# Altium footprint library FDBL86563-F085.PcbLib: 1 footprints
Each footprint in its own frame and in the unit in brackets; x right, y up, seen from the top. Pads: shape width x height; smd on the part's side, far side on the other; paste and mask are expansions set on the pad; w line width, h text height; cw(c..) or ccw(c..) is an arc to the next point about the centre after c.
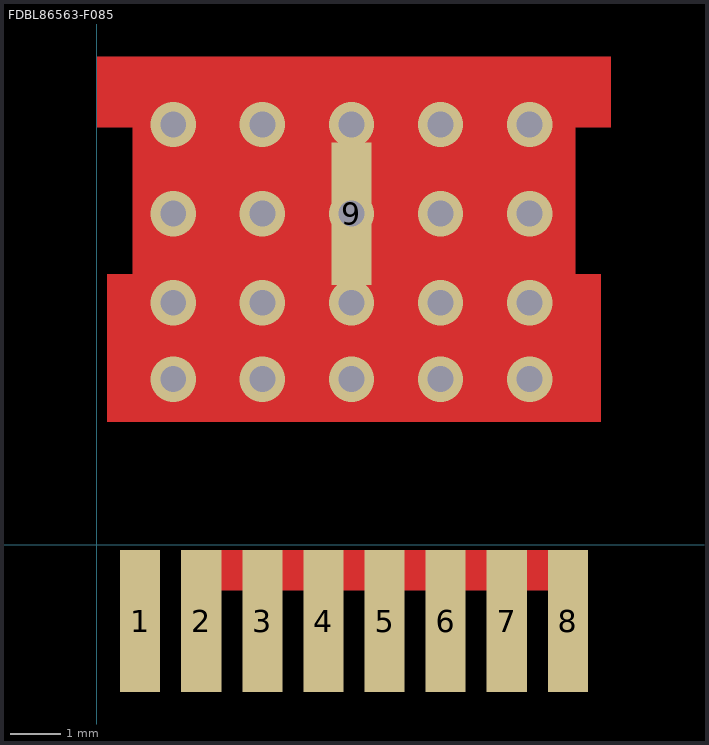
[diagram p0: the footprint, top view; thin cyan lines are the x and y axes]

## FDBL86563-F085 [mm]
pads (9):
  rect 0.787x2.794 smd: 1(0.85,-1.5) 2(2.05,-1.5) 3(3.25,-1.5) 4(4.45,-1.5) 5(5.65,-1.5) 6(6.85,-1.5) 7(8.05,-1.5) 8(9.25,-1.5) 9(5,6.5)
via 8.5,6.5 diameter 0.889 hole 0.508
via 1.5,6.5 diameter 0.889 hole 0.508
via 5,3.25 diameter 0.889 hole 0.508
via 3.25,3.25 diameter 0.889 hole 0.508
via 6.75,3.25 diameter 0.889 hole 0.508
via 8.5,3.25 diameter 0.889 hole 0.508
via 1.5,3.25 diameter 0.889 hole 0.508
via 3.25,4.75 diameter 0.889 hole 0.508
via 5,4.75 diameter 0.889 hole 0.508
via 6.75,4.75 diameter 0.889 hole 0.508
via 8.5,4.75 diameter 0.889 hole 0.508
via 1.5,4.75 diameter 0.889 hole 0.508
via 3.25,6.5 diameter 0.889 hole 0.508
via 5,6.5 diameter 0.889 hole 0.508
via 6.75,6.5 diameter 0.889 hole 0.508
via 6.75,8.25 diameter 0.889 hole 0.508
via 5,8.25 diameter 0.889 hole 0.508
via 3.25,8.25 diameter 0.889 hole 0.508
via 8.5,8.25 diameter 0.889 hole 0.508
via 1.5,8.25 diameter 0.889 hole 0.508
Top Layer:
  rectangle: 0.2,2.411 9.9,5.311
  rectangle: 0.7,5.206 9.4,8.306
  rectangle: 0,8.19 10.1,9.59
  rectangle: 1.7,-0.9 9.6,-0.1
Top Solder:
  rectangle: 0.7,5.225 9.4,8.325
  rectangle: 0.175,2.4 9.9,5.325
  rectangle: 0,8.175 10.1,9.6
  rectangle: 1.8,-1 9.7,0
3D body: height 2.31, standoff 0, extent 0,-2.9 10.1,9.6